# Altium integrated library Linear Technology Power Management Switching Regulator LT1074-LT8705.IntLib: 2252 symbols (part 72 of 148)
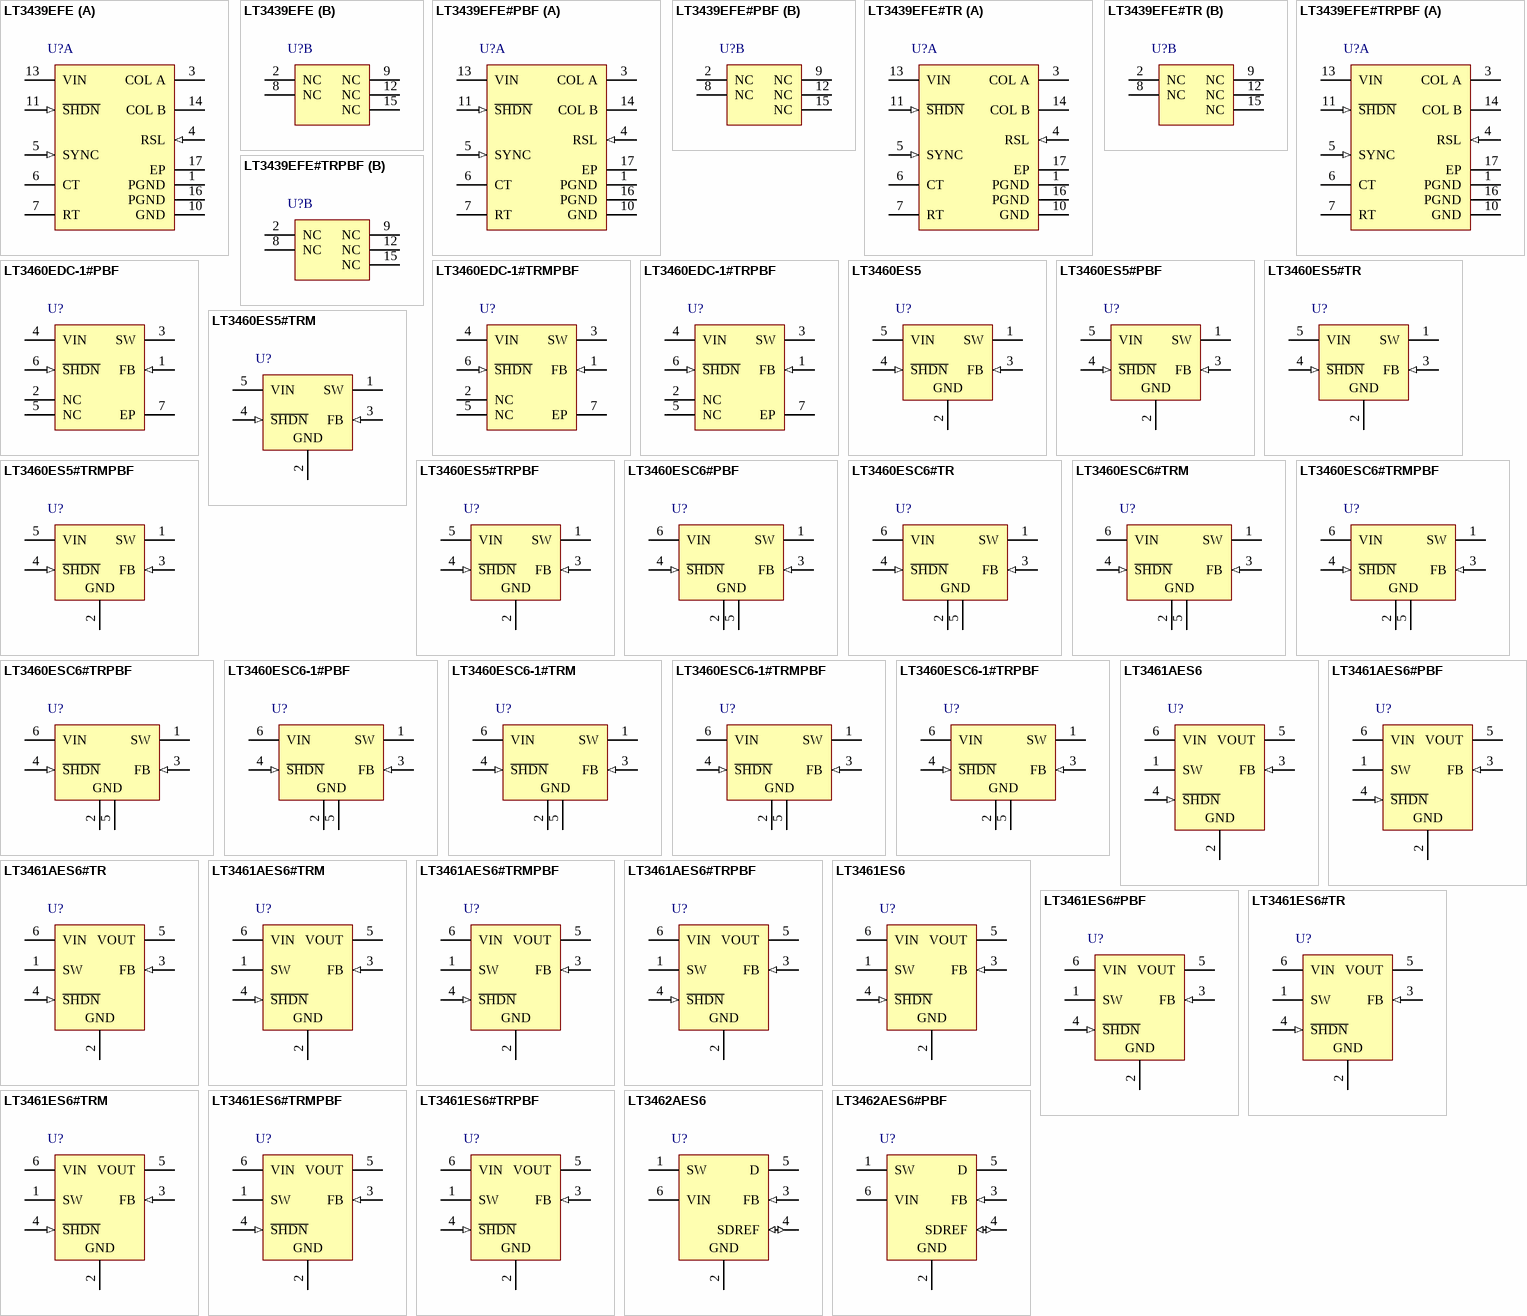
[diagram p142: symbols LT3439EFE to LT3462AES6#PBF]

## LT3460ES5#TRMPBF
designator U?
1.3 MHz Step-Up DC/DC Converter, 5-pin SOT23 (S5-5), -40 to 85 degC, Pb-Free, Mini Tape and Reel; Manufacturer: Linear Technology; PartNumber: LT3460ES5#TRMPBF; Number of Outputs: 1; DatasheetVersion: Rev. B; PackageVersion: Jun-10; PackageReference: S5-5; PackageDescription: 5-Pin Plastic TSOT-23, Body 1.63 x 2.90 mm, Pitch 0.95 mm; Supplier 1: Digi-Key; Supplier Part Number 1: LT3460ES5#TRMPBFTR-ND; Supplier 2: Digi-Key; Supplier Part Number 2: LT3460ES5#TRMPBFCT-ND; Supplier 3: Digi-Key; Supplier Part Number 3: LT3460ES5#TRMPBFDKR-ND; Supplier 4: Farnell; Supplier Part Number 4: 1663819; Supplier 5: Newark; Supplier Part Number 5: 57M8165; Packing: Mini Tape and Reel; RoHS: TRUE; Mounting Technology: Surface Mount; Code_JEDEC: MO-193; ComponentLink1Description: Manufacturer URL; ComponentLink1URL: http://www.linear.com/; ComponentLink2Description: Datasheet; ComponentLink2URL: http://cds.linear.com/docs/en/datasheet/34601fb.pdf; ComponentLink3Description: Package Specification; ComponentLink3URL: http://cds.linear.com/docs/en/packaging/SOT_5_05-08-1635.pdf
footprint LT-S5-5-TSOT-23_N (SOT23, 5-Leads, Body 2.90x1.63mm, Pitch 0.95mm, IPC Medium Density)
footprint LT-S5-5-TSOT-23_L (SOT23, 5-Leads, Body 2.90x1.63mm, Pitch 0.95mm, IPC High Density)
footprint LT-S5-5-TSOT-23_M (SOT23, 5-Leads, Body 2.90x1.63mm, Pitch 0.95mm, IPC Low Density)
pins: 1 SW (power) "Switch Pin. Connect inductor/diode here. Minimize trace at this pin to reduce EMI.", 2 GND (power) "Ground Pin. Tie directly to local ground plane.", 3 FB (in) "Feedback Pin.", 4 ~{SHDN} (in) "Shutdown Pin.", 5 VIN (power) "Input Supply Pin. Must be locally bypassed."

## LT3460ES5#TRPBF
designator U?
1.3 MHz Step-Up DC/DC Converter, 5-pin SOT23 (S5-5), -40 to 85 degC, Pb-Free, Tape and Reel; Manufacturer: Linear Technology; PartNumber: LT3460ES5#TRPBF; Number of Outputs: 1; DatasheetVersion: Rev. B; PackageVersion: Jun-10; PackageReference: S5-5; PackageDescription: 5-Pin Plastic TSOT-23, Body 1.63 x 2.90 mm, Pitch 0.95 mm; Supplier 1: Digi-Key; Supplier Part Number 1: LT3460ES5#TRPBF-ND; Supplier 2: Newark; Supplier Part Number 2: 57M8166; Packing: Tape and Reel; RoHS: TRUE; Mounting Technology: Surface Mount; Code_JEDEC: MO-193; ComponentLink1Description: Manufacturer URL; ComponentLink1URL: http://www.linear.com/; ComponentLink2Description: Datasheet; ComponentLink2URL: http://cds.linear.com/docs/en/datasheet/34601fb.pdf; ComponentLink3Description: Package Specification; ComponentLink3URL: http://cds.linear.com/docs/en/packaging/SOT_5_05-08-1635.pdf
footprint LT-S5-5-TSOT-23_N (SOT23, 5-Leads, Body 2.90x1.63mm, Pitch 0.95mm, IPC Medium Density)
footprint LT-S5-5-TSOT-23_L (SOT23, 5-Leads, Body 2.90x1.63mm, Pitch 0.95mm, IPC High Density)
footprint LT-S5-5-TSOT-23_M (SOT23, 5-Leads, Body 2.90x1.63mm, Pitch 0.95mm, IPC Low Density)
pins: 1 SW (power) "Switch Pin. Connect inductor/diode here. Minimize trace at this pin to reduce EMI.", 2 GND (power) "Ground Pin. Tie directly to local ground plane.", 3 FB (in) "Feedback Pin.", 4 ~{SHDN} (in) "Shutdown Pin.", 5 VIN (power) "Input Supply Pin. Must be locally bypassed."

## LT3460ESC6#PBF
designator U?
1.3 MHz Step-Up DC/DC Converter, 6-pin SOT23 (SC6-6), -40 to 85 degC, Pb-Free; Manufacturer: Linear Technology; PartNumber: LT3460ESC6#PBF; Number of Outputs: 1; DatasheetVersion: Rev. B; PackageVersion: Rev. B, 06/2010; PackageReference: SC6-6; PackageDescription: 6-Pin Plastic SC70, Body 2 x 1.25 mm, Pitch 0.65 mm; RoHS: TRUE; Mounting Technology: Surface Mount; Code_JEDEC: MO-203; ComponentLink1Description: Manufacturer URL; ComponentLink1URL: http://www.linear.com/; ComponentLink2Description: Datasheet; ComponentLink2URL: http://cds.linear.com/docs/en/datasheet/34601fb.pdf; ComponentLink3Description: Package Specification; ComponentLink3URL: http://cds.linear.com/docs/en/packaging/SOT_6_05-08-1638.pdf
footprint LT-SC6-6-SC70_N (SOT23, 6-Leads, Body 2.2x1.35mm, Pitch 0.65mm, IPC Medium Density)
footprint LT-SC6-6-SC70_L (SOT23, 6-Leads, Body 2.2x1.35mm, Pitch 0.65mm, IPC High Density)
footprint LT-SC6-6-SC70_M (SOT23, 6-Leads, Body 2.2x1.35mm, Pitch 0.65mm, IPC Low Density)
pins: 1 SW (power) "Switch Pin. Connect inductor/diode here. Minimize trace at this pin to reduce EMI.", 2 GND (power) "Ground Pin. Tie directly to local ground plane.", 3 FB (in) "Feedback Pin. Reference voltage is 1.255V. Connect resistor divider tap here. Minimize trace area at FB. Set VOUT according to VOUT = 1.255V (1 + R1/R2).", 4 ~{SHDN} (in) "Shutdown Pin. Tie to 1.5V or higher to enable device; 0.4V or less to disable device. Also functions as soft-start. Use RC filter (47k, 47nF typ) as shown in Figure 1.", 5 GND (power) "Ground Pin. Tie directly to local ground plane.", 6 VIN (power) "Input Supply Pin. Must be locally bypassed."

## LT3460ESC6#TR
designator U?
1.3 MHz Step-Up DC/DC Converter, 6-pin SOT23 (SC6-6), -40 to 85 degC, Tape and Reel; Manufacturer: Linear Technology; PartNumber: LT3460ESC6#TR; Number of Outputs: 1; DatasheetVersion: Rev. B; PackageVersion: Rev. B, 06/2010; PackageReference: SC6-6; PackageDescription: 6-Pin Plastic SC70, Body 2 x 1.25 mm, Pitch 0.65 mm; Supplier 1: Digi-Key; Supplier Part Number 1: LT3460ESC6#TR-ND; Packing: Tape and Reel; RoHS: FALSE; Mounting Technology: Surface Mount; Code_JEDEC: MO-203; ComponentLink1Description: Manufacturer URL; ComponentLink1URL: http://www.linear.com/; ComponentLink2Description: Datasheet; ComponentLink2URL: http://cds.linear.com/docs/en/datasheet/34601fb.pdf; ComponentLink3Description: Package Specification; ComponentLink3URL: http://cds.linear.com/docs/en/packaging/SOT_6_05-08-1638.pdf
footprint LT-SC6-6-SC70_N (SOT23, 6-Leads, Body 2.2x1.35mm, Pitch 0.65mm, IPC Medium Density)
footprint LT-SC6-6-SC70_L (SOT23, 6-Leads, Body 2.2x1.35mm, Pitch 0.65mm, IPC High Density)
footprint LT-SC6-6-SC70_M (SOT23, 6-Leads, Body 2.2x1.35mm, Pitch 0.65mm, IPC Low Density)
pins: 1 SW (power) "Switch Pin. Connect inductor/diode here. Minimize trace at this pin to reduce EMI.", 2 GND (power) "Ground Pin. Tie directly to local ground plane.", 3 FB (in) "Feedback Pin. Reference voltage is 1.255V. Connect resistor divider tap here. Minimize trace area at FB. Set VOUT according to VOUT = 1.255V (1 + R1/R2).", 4 ~{SHDN} (in) "Shutdown Pin. Tie to 1.5V or higher to enable device; 0.4V or less to disable device. Also functions as soft-start. Use RC filter (47k, 47nF typ) as shown in Figure 1.", 5 GND (power) "Ground Pin. Tie directly to local ground plane.", 6 VIN (power) "Input Supply Pin. Must be locally bypassed."

## LT3460ESC6#TRM
designator U?
1.3 MHz Step-Up DC/DC Converter, 6-pin SOT23 (SC6-6), -40 to 85 degC, Mini Tape and Reel; Manufacturer: Linear Technology; PartNumber: LT3460ESC6#TRM; Number of Outputs: 1; DatasheetVersion: Rev. B; PackageVersion: Rev. B, 06/2010; PackageReference: SC6-6; PackageDescription: 6-Pin Plastic SC70, Body 2 x 1.25 mm, Pitch 0.65 mm; Supplier 1: Digi-Key; Supplier Part Number 1: LT3460ESC6#TRMTR-ND; Supplier 2: Digi-Key; Supplier Part Number 2: LT3460ESC6#TRMCT-ND; Packing: Mini Tape and Reel; RoHS: FALSE; Mounting Technology: Surface Mount; Code_JEDEC: MO-203; ComponentLink1Description: Manufacturer URL; ComponentLink1URL: http://www.linear.com/; ComponentLink2Description: Datasheet; ComponentLink2URL: http://cds.linear.com/docs/en/datasheet/34601fb.pdf; ComponentLink3Description: Package Specification; ComponentLink3URL: http://cds.linear.com/docs/en/packaging/SOT_6_05-08-1638.pdf
footprint LT-SC6-6-SC70_N (SOT23, 6-Leads, Body 2.2x1.35mm, Pitch 0.65mm, IPC Medium Density)
footprint LT-SC6-6-SC70_L (SOT23, 6-Leads, Body 2.2x1.35mm, Pitch 0.65mm, IPC High Density)
footprint LT-SC6-6-SC70_M (SOT23, 6-Leads, Body 2.2x1.35mm, Pitch 0.65mm, IPC Low Density)
pins: 1 SW (power) "Switch Pin. Connect inductor/diode here. Minimize trace at this pin to reduce EMI.", 2 GND (power) "Ground Pin. Tie directly to local ground plane.", 3 FB (in) "Feedback Pin. Reference voltage is 1.255V. Connect resistor divider tap here. Minimize trace area at FB. Set VOUT according to VOUT = 1.255V (1 + R1/R2).", 4 ~{SHDN} (in) "Shutdown Pin. Tie to 1.5V or higher to enable device; 0.4V or less to disable device. Also functions as soft-start. Use RC filter (47k, 47nF typ) as shown in Figure 1.", 5 GND (power) "Ground Pin. Tie directly to local ground plane.", 6 VIN (power) "Input Supply Pin. Must be locally bypassed."

## LT3460ESC6#TRMPBF
designator U?
1.3 MHz Step-Up DC/DC Converter, 6-pin SOT23 (SC6-6), -40 to 85 degC, Pb-Free, Mini Tape and Reel; Manufacturer: Linear Technology; PartNumber: LT3460ESC6#TRMPBF; Number of Outputs: 1; DatasheetVersion: Rev. B; PackageVersion: Rev. B, 06/2010; PackageReference: SC6-6; PackageDescription: 6-Pin Plastic SC70, Body 2 x 1.25 mm, Pitch 0.65 mm; Supplier 1: Digi-Key; Supplier Part Number 1: LT3460ESC6#TRMPBF-ND; Packing: Mini Tape and Reel; RoHS: TRUE; Mounting Technology: Surface Mount; Code_JEDEC: MO-203; ComponentLink1Description: Manufacturer URL; ComponentLink1URL: http://www.linear.com/; ComponentLink2Description: Datasheet; ComponentLink2URL: http://cds.linear.com/docs/en/datasheet/34601fb.pdf; ComponentLink3Description: Package Specification; ComponentLink3URL: http://cds.linear.com/docs/en/packaging/SOT_6_05-08-1638.pdf
footprint LT-SC6-6-SC70_N (SOT23, 6-Leads, Body 2.2x1.35mm, Pitch 0.65mm, IPC Medium Density)
footprint LT-SC6-6-SC70_L (SOT23, 6-Leads, Body 2.2x1.35mm, Pitch 0.65mm, IPC High Density)
footprint LT-SC6-6-SC70_M (SOT23, 6-Leads, Body 2.2x1.35mm, Pitch 0.65mm, IPC Low Density)
pins: 1 SW (power) "Switch Pin. Connect inductor/diode here. Minimize trace at this pin to reduce EMI.", 2 GND (power) "Ground Pin. Tie directly to local ground plane.", 3 FB (in) "Feedback Pin. Reference voltage is 1.255V. Connect resistor divider tap here. Minimize trace area at FB. Set VOUT according to VOUT = 1.255V (1 + R1/R2).", 4 ~{SHDN} (in) "Shutdown Pin. Tie to 1.5V or higher to enable device; 0.4V or less to disable device. Also functions as soft-start. Use RC filter (47k, 47nF typ) as shown in Figure 1.", 5 GND (power) "Ground Pin. Tie directly to local ground plane.", 6 VIN (power) "Input Supply Pin. Must be locally bypassed."

## LT3460ESC6#TRPBF
designator U?
1.3 MHz Step-Up DC/DC Converter, 6-pin SOT23 (SC6-6), -40 to 85 degC, Pb-Free, Tape and Reel; Manufacturer: Linear Technology; PartNumber: LT3460ESC6#TRPBF; Number of Outputs: 1; DatasheetVersion: Rev. B; PackageVersion: Rev. B, 06/2010; PackageReference: SC6-6; PackageDescription: 6-Pin Plastic SC70, Body 2 x 1.25 mm, Pitch 0.65 mm; Supplier 1: Digi-Key; Supplier Part Number 1: LT3460ESC6#TRPBF-ND; Packing: Tape and Reel; RoHS: TRUE; Mounting Technology: Surface Mount; Code_JEDEC: MO-203; ComponentLink1Description: Manufacturer URL; ComponentLink1URL: http://www.linear.com/; ComponentLink2Description: Datasheet; ComponentLink2URL: http://cds.linear.com/docs/en/datasheet/34601fb.pdf; ComponentLink3Description: Package Specification; ComponentLink3URL: http://cds.linear.com/docs/en/packaging/SOT_6_05-08-1638.pdf
footprint LT-SC6-6-SC70_N (SOT23, 6-Leads, Body 2.2x1.35mm, Pitch 0.65mm, IPC Medium Density)
footprint LT-SC6-6-SC70_L (SOT23, 6-Leads, Body 2.2x1.35mm, Pitch 0.65mm, IPC High Density)
footprint LT-SC6-6-SC70_M (SOT23, 6-Leads, Body 2.2x1.35mm, Pitch 0.65mm, IPC Low Density)
pins: 1 SW (power) "Switch Pin. Connect inductor/diode here. Minimize trace at this pin to reduce EMI.", 2 GND (power) "Ground Pin. Tie directly to local ground plane.", 3 FB (in) "Feedback Pin. Reference voltage is 1.255V. Connect resistor divider tap here. Minimize trace area at FB. Set VOUT according to VOUT = 1.255V (1 + R1/R2).", 4 ~{SHDN} (in) "Shutdown Pin. Tie to 1.5V or higher to enable device; 0.4V or less to disable device. Also functions as soft-start. Use RC filter (47k, 47nF typ) as shown in Figure 1.", 5 GND (power) "Ground Pin. Tie directly to local ground plane.", 6 VIN (power) "Input Supply Pin. Must be locally bypassed."

## LT3460ESC6-1#PBF
designator U?
650 kHz Step-Up DC/DC Converter, 6-pin SOT23 (SC6-6), -40 to 85 degC, Pb-Free; Manufacturer: Linear Technology; PartNumber: LT3460ESC6-1#PBF; Number of Outputs: 1; DatasheetVersion: Rev. B; PackageVersion: Rev. B, 06/2010; PackageReference: SC6-6; PackageDescription: 6-Pin Plastic SC70, Body 2 x 1.25 mm, Pitch 0.65 mm; RoHS: TRUE; Mounting Technology: Surface Mount; Code_JEDEC: MO-203; ComponentLink1Description: Manufacturer URL; ComponentLink1URL: http://www.linear.com/; ComponentLink2Description: Datasheet; ComponentLink2URL: http://cds.linear.com/docs/en/datasheet/34601fb.pdf; ComponentLink3Description: Package Specification; ComponentLink3URL: http://cds.linear.com/docs/en/packaging/SOT_6_05-08-1638.pdf
footprint LT-SC6-6-SC70_N (SOT23, 6-Leads, Body 2.2x1.35mm, Pitch 0.65mm, IPC Medium Density)
footprint LT-SC6-6-SC70_L (SOT23, 6-Leads, Body 2.2x1.35mm, Pitch 0.65mm, IPC High Density)
footprint LT-SC6-6-SC70_M (SOT23, 6-Leads, Body 2.2x1.35mm, Pitch 0.65mm, IPC Low Density)
pins: 1 SW (power) "Switch Pin. Connect inductor/diode here. Minimize trace at this pin to reduce EMI.", 2 GND (power) "Ground Pin. Tie directly to local ground plane.", 3 FB (in) "Feedback Pin. Reference voltage is 1.255V. Connect resistor divider tap here. Minimize trace area at FB. Set VOUT according to VOUT = 1.255V (1 + R1/R2).", 4 ~{SHDN} (in) "Shutdown Pin. Tie to 1.5V or higher to enable device; 0.4V or less to disable device. Also functions as soft-start. Use RC filter (47k, 47nF typ) as shown in Figure 1.", 5 GND (power) "Ground Pin. Tie directly to local ground plane.", 6 VIN (power) "Input Supply Pin. Must be locally bypassed."

## LT3460ESC6-1#TRM
designator U?
650 kHz Step-Up DC/DC Converter, 6-pin SOT23 (SC6-6), -40 to 85 degC, Mini Tape and Reel; Manufacturer: Linear Technology; PartNumber: LT3460ESC6-1#TRM; Number of Outputs: 1; DatasheetVersion: Rev. B; PackageVersion: Rev. B, 06/2010; PackageReference: SC6-6; PackageDescription: 6-Pin Plastic SC70, Body 2 x 1.25 mm, Pitch 0.65 mm; Packing: Mini Tape and Reel; RoHS: TRUE; Mounting Technology: Surface Mount; Code_JEDEC: MO-203; ComponentLink1Description: Manufacturer URL; ComponentLink1URL: http://www.linear.com/; ComponentLink2Description: Datasheet; ComponentLink2URL: http://cds.linear.com/docs/en/datasheet/34601fb.pdf; ComponentLink3Description: Package Specification; ComponentLink3URL: http://cds.linear.com/docs/en/packaging/SOT_6_05-08-1638.pdf
footprint LT-SC6-6-SC70_N (SOT23, 6-Leads, Body 2.2x1.35mm, Pitch 0.65mm, IPC Medium Density)
footprint LT-SC6-6-SC70_L (SOT23, 6-Leads, Body 2.2x1.35mm, Pitch 0.65mm, IPC High Density)
footprint LT-SC6-6-SC70_M (SOT23, 6-Leads, Body 2.2x1.35mm, Pitch 0.65mm, IPC Low Density)
pins: 1 SW (power) "Switch Pin. Connect inductor/diode here. Minimize trace at this pin to reduce EMI.", 2 GND (power) "Ground Pin. Tie directly to local ground plane.", 3 FB (in) "Feedback Pin. Reference voltage is 1.255V. Connect resistor divider tap here. Minimize trace area at FB. Set VOUT according to VOUT = 1.255V (1 + R1/R2).", 4 ~{SHDN} (in) "Shutdown Pin. Tie to 1.5V or higher to enable device; 0.4V or less to disable device. Also functions as soft-start. Use RC filter (47k, 47nF typ) as shown in Figure 1.", 5 GND (power) "Ground Pin. Tie directly to local ground plane.", 6 VIN (power) "Input Supply Pin. Must be locally bypassed."

## LT3460ESC6-1#TRMPBF
designator U?
650 kHz Step-Up DC/DC Converter, 6-pin SOT23 (SC6-6), -40 to 85 degC, Pb-Free, Mini Tape and Reel; Manufacturer: Linear Technology; PartNumber: LT3460ESC6-1#TRMPBF; Number of Outputs: 1; DatasheetVersion: Rev. B; PackageVersion: Rev. B, 06/2010; PackageReference: SC6-6; PackageDescription: 6-Pin Plastic SC70, Body 2 x 1.25 mm, Pitch 0.65 mm; Supplier 1: Digi-Key; Supplier Part Number 1: LT3460ESC6-1#TRMPBF-ND; Packing: Mini Tape and Reel; RoHS: TRUE; Mounting Technology: Surface Mount; Code_JEDEC: MO-203; ComponentLink1Description: Manufacturer URL; ComponentLink1URL: http://www.linear.com/; ComponentLink2Description: Datasheet; ComponentLink2URL: http://cds.linear.com/docs/en/datasheet/34601fb.pdf; ComponentLink3Description: Package Specification; ComponentLink3URL: http://cds.linear.com/docs/en/packaging/SOT_6_05-08-1638.pdf
footprint LT-SC6-6-SC70_N (SOT23, 6-Leads, Body 2.2x1.35mm, Pitch 0.65mm, IPC Medium Density)
footprint LT-SC6-6-SC70_L (SOT23, 6-Leads, Body 2.2x1.35mm, Pitch 0.65mm, IPC High Density)
footprint LT-SC6-6-SC70_M (SOT23, 6-Leads, Body 2.2x1.35mm, Pitch 0.65mm, IPC Low Density)
pins: 1 SW (power) "Switch Pin. Connect inductor/diode here. Minimize trace at this pin to reduce EMI.", 2 GND (power) "Ground Pin. Tie directly to local ground plane.", 3 FB (in) "Feedback Pin. Reference voltage is 1.255V. Connect resistor divider tap here. Minimize trace area at FB. Set VOUT according to VOUT = 1.255V (1 + R1/R2).", 4 ~{SHDN} (in) "Shutdown Pin. Tie to 1.5V or higher to enable device; 0.4V or less to disable device. Also functions as soft-start. Use RC filter (47k, 47nF typ) as shown in Figure 1.", 5 GND (power) "Ground Pin. Tie directly to local ground plane.", 6 VIN (power) "Input Supply Pin. Must be locally bypassed."

## LT3460ESC6-1#TRPBF
designator U?
650 kHz Step-Up DC/DC Converter, 6-pin SOT23 (SC6-6), -40 to 85 degC, Pb-Free, Tape and Reel; Manufacturer: Linear Technology; PartNumber: LT3460ESC6-1#TRPBF; Number of Outputs: 1; DatasheetVersion: Rev. B; PackageVersion: Rev. B, 06/2010; PackageReference: SC6-6; PackageDescription: 6-Pin Plastic SC70, Body 2 x 1.25 mm, Pitch 0.65 mm; Supplier 1: Digi-Key; Supplier Part Number 1: LT3460ESC6-1#TRPBF-ND; Packing: Tape and Reel; RoHS: TRUE; Mounting Technology: Surface Mount; Code_JEDEC: MO-203; ComponentLink1Description: Manufacturer URL; ComponentLink1URL: http://www.linear.com/; ComponentLink2Description: Datasheet; ComponentLink2URL: http://cds.linear.com/docs/en/datasheet/34601fb.pdf; ComponentLink3Description: Package Specification; ComponentLink3URL: http://cds.linear.com/docs/en/packaging/SOT_6_05-08-1638.pdf
footprint LT-SC6-6-SC70_N (SOT23, 6-Leads, Body 2.2x1.35mm, Pitch 0.65mm, IPC Medium Density)
footprint LT-SC6-6-SC70_L (SOT23, 6-Leads, Body 2.2x1.35mm, Pitch 0.65mm, IPC High Density)
footprint LT-SC6-6-SC70_M (SOT23, 6-Leads, Body 2.2x1.35mm, Pitch 0.65mm, IPC Low Density)
pins: 1 SW (power) "Switch Pin. Connect inductor/diode here. Minimize trace at this pin to reduce EMI.", 2 GND (power) "Ground Pin. Tie directly to local ground plane.", 3 FB (in) "Feedback Pin. Reference voltage is 1.255V. Connect resistor divider tap here. Minimize trace area at FB. Set VOUT according to VOUT = 1.255V (1 + R1/R2).", 4 ~{SHDN} (in) "Shutdown Pin. Tie to 1.5V or higher to enable device; 0.4V or less to disable device. Also functions as soft-start. Use RC filter (47k, 47nF typ) as shown in Figure 1.", 5 GND (power) "Ground Pin. Tie directly to local ground plane.", 6 VIN (power) "Input Supply Pin. Must be locally bypassed."

## LT3461AES6
designator U?
3 MHz Step-Up DC/DC Converter with Integrated Schottky, 6-pin SOT23 (S6-6), -40 to 85 degC; Manufacturer: Linear Technology; PartNumber: LT3461AES6; Number of Outputs: 1; PackageVersion: Jun-10; PackageReference: S6-6; PackageDescription: 6-Pin Plastic TSOT-23, Body 2.9 x 1.63 mm, Pitch 0.95 mm; Supplier 1: Newark; Supplier Part Number 1: 24W8904; RoHS: FALSE; Mounting Technology: Surface Mount; Code_JEDEC: MO-193; ComponentLink1Description: Manufacturer URL; ComponentLink1URL: http://www.linear.com/; ComponentLink2Description: Datasheet; ComponentLink2URL: http://cds.linear.com/docs/en/datasheet/3461af.pdf; ComponentLink3Description: Package Specification; ComponentLink3URL: http://cds.linear.com/docs/en/packaging/SOT_6_05-08-1636.pdf
footprint LT-S6-6-TSOT-23_N (SOT23, 6-Leads, Body 2.9x1.75mm, Pitch 0.95mm, IPC Medium Density)
footprint LT-S6-6-TSOT-23_L (SOT23, 6-Leads, Body 2.9x1.75mm, Pitch 0.95mm, IPC High Density)
footprint LT-S6-6-TSOT-23_M (SOT23, 6-Leads, Body 2.9x1.75mm, Pitch 0.95mm, IPC Low Density)
pins: 1 SW, 2 GND (power), 3 FB (in), 4 ~{SHDN} (in), 5 VOUT (power), 6 VIN (power)

## LT3461AES6#PBF
designator U?
3 MHz Step-Up DC/DC Converter with Integrated Schottky, 6-pin SOT23 (S6-6), -40 to 85 degC, Pb-Free; Manufacturer: Linear Technology; PartNumber: LT3461AES6#PBF; Number of Outputs: 1; PackageVersion: Jun-10; PackageReference: S6-6; PackageDescription: 6-Pin Plastic TSOT-23, Body 2.9 x 1.63 mm, Pitch 0.95 mm; Supplier 1: Farnell; Supplier Part Number 1: 2308200; Supplier 2: Newark; Supplier Part Number 2: 78T3988; RoHS: TRUE; Mounting Technology: Surface Mount; Code_JEDEC: MO-193; ComponentLink1Description: Manufacturer URL; ComponentLink1URL: http://www.linear.com/; ComponentLink2Description: Datasheet; ComponentLink2URL: http://cds.linear.com/docs/en/datasheet/3461af.pdf; ComponentLink3Description: Package Specification; ComponentLink3URL: http://cds.linear.com/docs/en/packaging/SOT_6_05-08-1636.pdf
footprint LT-S6-6-TSOT-23_N (SOT23, 6-Leads, Body 2.9x1.75mm, Pitch 0.95mm, IPC Medium Density)
footprint LT-S6-6-TSOT-23_L (SOT23, 6-Leads, Body 2.9x1.75mm, Pitch 0.95mm, IPC High Density)
footprint LT-S6-6-TSOT-23_M (SOT23, 6-Leads, Body 2.9x1.75mm, Pitch 0.95mm, IPC Low Density)
pins: 1 SW, 2 GND (power), 3 FB (in), 4 ~{SHDN} (in), 5 VOUT (power), 6 VIN (power)

## LT3461AES6#TR
designator U?
3 MHz Step-Up DC/DC Converter with Integrated Schottky, 6-pin SOT23 (S6-6), -40 to 85 degC, Tape and Reel; Manufacturer: Linear Technology; PartNumber: LT3461AES6#TR; Number of Outputs: 1; PackageVersion: Jun-10; PackageReference: S6-6; PackageDescription: 6-Pin Plastic TSOT-23, Body 2.9 x 1.63 mm, Pitch 0.95 mm; Supplier 1: Digi-Key; Supplier Part Number 1: LT3461AES6#TR-ND; Packing: Tape and Reel; RoHS: FALSE; Mounting Technology: Surface Mount; Code_JEDEC: MO-193; ComponentLink1Description: Manufacturer URL; ComponentLink1URL: http://www.linear.com/; ComponentLink2Description: Datasheet; ComponentLink2URL: http://cds.linear.com/docs/en/datasheet/3461af.pdf; ComponentLink3Description: Package Specification; ComponentLink3URL: http://cds.linear.com/docs/en/packaging/SOT_6_05-08-1636.pdf
footprint LT-S6-6-TSOT-23_N (SOT23, 6-Leads, Body 2.9x1.75mm, Pitch 0.95mm, IPC Medium Density)
footprint LT-S6-6-TSOT-23_L (SOT23, 6-Leads, Body 2.9x1.75mm, Pitch 0.95mm, IPC High Density)
footprint LT-S6-6-TSOT-23_M (SOT23, 6-Leads, Body 2.9x1.75mm, Pitch 0.95mm, IPC Low Density)
pins: 1 SW, 2 GND (power), 3 FB (in), 4 ~{SHDN} (in), 5 VOUT (power), 6 VIN (power)

## LT3461AES6#TRM
designator U?
3 MHz Step-Up DC/DC Converter with Integrated Schottky, 6-pin SOT23 (S6-6), -40 to 85 degC, Mini Tape and Reel; Manufacturer: Linear Technology; PartNumber: LT3461AES6#TRM; Number of Outputs: 1; PackageVersion: Jun-10; PackageReference: S6-6; PackageDescription: 6-Pin Plastic TSOT-23, Body 2.9 x 1.63 mm, Pitch 0.95 mm; Supplier 1: Digi-Key; Supplier Part Number 1: LT3461AES6#TRMTR-ND; Supplier 2: Digi-Key; Supplier Part Number 2: LT3461AES6#TRMCT-ND; Packing: Mini Tape and Reel; RoHS: FALSE; Mounting Technology: Surface Mount; Code_JEDEC: MO-193; ComponentLink1Description: Manufacturer URL; ComponentLink1URL: http://www.linear.com/; ComponentLink2Description: Datasheet; ComponentLink2URL: http://cds.linear.com/docs/en/datasheet/3461af.pdf; ComponentLink3Description: Package Specification; ComponentLink3URL: http://cds.linear.com/docs/en/packaging/SOT_6_05-08-1636.pdf
footprint LT-S6-6-TSOT-23_N (SOT23, 6-Leads, Body 2.9x1.75mm, Pitch 0.95mm, IPC Medium Density)
footprint LT-S6-6-TSOT-23_L (SOT23, 6-Leads, Body 2.9x1.75mm, Pitch 0.95mm, IPC High Density)
footprint LT-S6-6-TSOT-23_M (SOT23, 6-Leads, Body 2.9x1.75mm, Pitch 0.95mm, IPC Low Density)
pins: 1 SW, 2 GND (power), 3 FB (in), 4 ~{SHDN} (in), 5 VOUT (power), 6 VIN (power)

## LT3461AES6#TRMPBF
designator U?
3 MHz Step-Up DC/DC Converter with Integrated Schottky, 6-pin SOT23 (S6-6), -40 to 85 degC, Pb-Free, Mini Tape and Reel; Manufacturer: Linear Technology; PartNumber: LT3461AES6#TRMPBF; Number of Outputs: 1; PackageVersion: Jun-10; PackageReference: S6-6; PackageDescription: 6-Pin Plastic TSOT-23, Body 2.9 x 1.63 mm, Pitch 0.95 mm; Supplier 1: Digi-Key; Supplier Part Number 1: LT3461AES6#TRMPBFTR-ND; Supplier 2: Digi-Key; Supplier Part Number 2: LT3461AES6#TRMPBFCT-ND; Supplier 3: Digi-Key; Supplier Part Number 3: LT3461AES6#TRMPBFDKR-ND; Supplier 4: Farnell; Supplier Part Number 4: 1663820RL; Supplier 5: Farnell; Supplier Part Number 5: 1663820; Supplier 6: Newark; Supplier Part Number 6: 57M8169; Supplier 7: Newark; Supplier Part Number 7: 59M8320; Packing: Mini Tape and Reel; RoHS: TRUE; Mounting Technology: Surface Mount; Code_JEDEC: MO-193; ComponentLink1Description: Manufacturer URL; ComponentLink1URL: http://www.linear.com/; ComponentLink2Description: Datasheet; ComponentLink2URL: http://cds.linear.com/docs/en/datasheet/3461af.pdf; ComponentLink3Description: Package Specification; ComponentLink3URL: http://cds.linear.com/docs/en/packaging/SOT_6_05-08-1636.pdf
footprint LT-S6-6-TSOT-23_N (SOT23, 6-Leads, Body 2.9x1.75mm, Pitch 0.95mm, IPC Medium Density)
footprint LT-S6-6-TSOT-23_L (SOT23, 6-Leads, Body 2.9x1.75mm, Pitch 0.95mm, IPC High Density)
footprint LT-S6-6-TSOT-23_M (SOT23, 6-Leads, Body 2.9x1.75mm, Pitch 0.95mm, IPC Low Density)
pins: 1 SW, 2 GND (power), 3 FB (in), 4 ~{SHDN} (in), 5 VOUT (power), 6 VIN (power)

## LT3461AES6#TRPBF
designator U?
3 MHz Step-Up DC/DC Converter with Integrated Schottky, 6-pin SOT23 (S6-6), -40 to 85 degC, Pb-Free, Tape and Reel; Manufacturer: Linear Technology; PartNumber: LT3461AES6#TRPBF; Number of Outputs: 1; PackageVersion: Jun-10; PackageReference: S6-6; PackageDescription: 6-Pin Plastic TSOT-23, Body 2.9 x 1.63 mm, Pitch 0.95 mm; Supplier 1: Digi-Key; Supplier Part Number 1: LT3461AES6#TRPBF-ND; Supplier 2: Newark; Supplier Part Number 2: 57M8170; Packing: Tape and Reel; RoHS: TRUE; Mounting Technology: Surface Mount; Code_JEDEC: MO-193; ComponentLink1Description: Manufacturer URL; ComponentLink1URL: http://www.linear.com/; ComponentLink2Description: Datasheet; ComponentLink2URL: http://cds.linear.com/docs/en/datasheet/3461af.pdf; ComponentLink3Description: Package Specification; ComponentLink3URL: http://cds.linear.com/docs/en/packaging/SOT_6_05-08-1636.pdf
footprint LT-S6-6-TSOT-23_N (SOT23, 6-Leads, Body 2.9x1.75mm, Pitch 0.95mm, IPC Medium Density)
footprint LT-S6-6-TSOT-23_L (SOT23, 6-Leads, Body 2.9x1.75mm, Pitch 0.95mm, IPC High Density)
footprint LT-S6-6-TSOT-23_M (SOT23, 6-Leads, Body 2.9x1.75mm, Pitch 0.95mm, IPC Low Density)
pins: 1 SW, 2 GND (power), 3 FB (in), 4 ~{SHDN} (in), 5 VOUT (power), 6 VIN (power)

## LT3461ES6
designator U?
1.3 MHz Step-Up DC/DC Converter with Integrated Schottky, 6-pin SOT23 (S6-6), -40 to 85 degC; Manufacturer: Linear Technology; PartNumber: LT3461ES6; Number of Outputs: 1; PackageVersion: Jun-10; PackageReference: S6-6; PackageDescription: 6-Pin Plastic TSOT-23, Body 2.9 x 1.63 mm, Pitch 0.95 mm; RoHS: FALSE; Mounting Technology: Surface Mount; Code_JEDEC: MO-193; ComponentLink1Description: Manufacturer URL; ComponentLink1URL: http://www.linear.com/; ComponentLink2Description: Datasheet; ComponentLink2URL: http://cds.linear.com/docs/en/datasheet/3461af.pdf; ComponentLink3Description: Package Specification; ComponentLink3URL: http://cds.linear.com/docs/en/packaging/SOT_6_05-08-1636.pdf
footprint LT-S6-6-TSOT-23_N (SOT23, 6-Leads, Body 2.9x1.75mm, Pitch 0.95mm, IPC Medium Density)
footprint LT-S6-6-TSOT-23_L (SOT23, 6-Leads, Body 2.9x1.75mm, Pitch 0.95mm, IPC High Density)
footprint LT-S6-6-TSOT-23_M (SOT23, 6-Leads, Body 2.9x1.75mm, Pitch 0.95mm, IPC Low Density)
pins: 1 SW, 2 GND (power), 3 FB (in), 4 ~{SHDN} (in), 5 VOUT (power), 6 VIN (power)

## LT3461ES6#PBF
designator U?
1.3 MHz Step-Up DC/DC Converter with Integrated Schottky, 6-pin SOT23 (S6-6), -40 to 85 degC, Pb-Free; Manufacturer: Linear Technology; PartNumber: LT3461ES6#PBF; Number of Outputs: 1; PackageVersion: Jun-10; PackageReference: S6-6; PackageDescription: 6-Pin Plastic TSOT-23, Body 2.9 x 1.63 mm, Pitch 0.95 mm; Supplier 1: Farnell; Supplier Part Number 1: 2308201; Supplier 2: Newark; Supplier Part Number 2: 78T3989; RoHS: TRUE; Mounting Technology: Surface Mount; Code_JEDEC: MO-193; ComponentLink1Description: Manufacturer URL; ComponentLink1URL: http://www.linear.com/; ComponentLink2Description: Datasheet; ComponentLink2URL: http://cds.linear.com/docs/en/datasheet/3461af.pdf; ComponentLink3Description: Package Specification; ComponentLink3URL: http://cds.linear.com/docs/en/packaging/SOT_6_05-08-1636.pdf
footprint LT-S6-6-TSOT-23_N (SOT23, 6-Leads, Body 2.9x1.75mm, Pitch 0.95mm, IPC Medium Density)
footprint LT-S6-6-TSOT-23_L (SOT23, 6-Leads, Body 2.9x1.75mm, Pitch 0.95mm, IPC High Density)
footprint LT-S6-6-TSOT-23_M (SOT23, 6-Leads, Body 2.9x1.75mm, Pitch 0.95mm, IPC Low Density)
pins: 1 SW, 2 GND (power), 3 FB (in), 4 ~{SHDN} (in), 5 VOUT (power), 6 VIN (power)

## LT3461ES6#TR
designator U?
1.3 MHz Step-Up DC/DC Converter with Integrated Schottky, 6-pin SOT23 (S6-6), -40 to 85 degC, Tape and Reel; Manufacturer: Linear Technology; PartNumber: LT3461ES6#TR; Number of Outputs: 1; PackageVersion: Jun-10; PackageReference: S6-6; PackageDescription: 6-Pin Plastic TSOT-23, Body 2.9 x 1.63 mm, Pitch 0.95 mm; Supplier 1: Digi-Key; Supplier Part Number 1: LT3461ES6#TR-ND; Supplier 2: Newark; Supplier Part Number 2: 57M8171; Packing: Tape and Reel; RoHS: FALSE; Mounting Technology: Surface Mount; Code_JEDEC: MO-193; ComponentLink1Description: Manufacturer URL; ComponentLink1URL: http://www.linear.com/; ComponentLink2Description: Datasheet; ComponentLink2URL: http://cds.linear.com/docs/en/datasheet/3461af.pdf; ComponentLink3Description: Package Specification; ComponentLink3URL: http://cds.linear.com/docs/en/packaging/SOT_6_05-08-1636.pdf
footprint LT-S6-6-TSOT-23_N (SOT23, 6-Leads, Body 2.9x1.75mm, Pitch 0.95mm, IPC Medium Density)
footprint LT-S6-6-TSOT-23_L (SOT23, 6-Leads, Body 2.9x1.75mm, Pitch 0.95mm, IPC High Density)
footprint LT-S6-6-TSOT-23_M (SOT23, 6-Leads, Body 2.9x1.75mm, Pitch 0.95mm, IPC Low Density)
pins: 1 SW, 2 GND (power), 3 FB (in), 4 ~{SHDN} (in), 5 VOUT (power), 6 VIN (power)

## LT3461ES6#TRM
designator U?
1.3 MHz Step-Up DC/DC Converter with Integrated Schottky, 6-pin SOT23 (S6-6), -40 to 85 degC, Mini Tape and Reel; Manufacturer: Linear Technology; PartNumber: LT3461ES6#TRM; Number of Outputs: 1; PackageVersion: Jun-10; PackageReference: S6-6; PackageDescription: 6-Pin Plastic TSOT-23, Body 2.9 x 1.63 mm, Pitch 0.95 mm; Supplier 1: Digi-Key; Supplier Part Number 1: LT3461ES6#TRMTR-ND; Supplier 2: Digi-Key; Supplier Part Number 2: LT3461ES6#TRMCT-ND; Supplier 3: Newark; Supplier Part Number 3: 57M8172; Packing: Mini Tape and Reel; RoHS: FALSE; Mounting Technology: Surface Mount; Code_JEDEC: MO-193; ComponentLink1Description: Manufacturer URL; ComponentLink1URL: http://www.linear.com/; ComponentLink2Description: Datasheet; ComponentLink2URL: http://cds.linear.com/docs/en/datasheet/3461af.pdf; ComponentLink3Description: Package Specification; ComponentLink3URL: http://cds.linear.com/docs/en/packaging/SOT_6_05-08-1636.pdf
footprint LT-S6-6-TSOT-23_N (SOT23, 6-Leads, Body 2.9x1.75mm, Pitch 0.95mm, IPC Medium Density)
footprint LT-S6-6-TSOT-23_L (SOT23, 6-Leads, Body 2.9x1.75mm, Pitch 0.95mm, IPC High Density)
footprint LT-S6-6-TSOT-23_M (SOT23, 6-Leads, Body 2.9x1.75mm, Pitch 0.95mm, IPC Low Density)
pins: 1 SW, 2 GND (power), 3 FB (in), 4 ~{SHDN} (in), 5 VOUT (power), 6 VIN (power)

## LT3461ES6#TRMPBF
designator U?
1.3 MHz Step-Up DC/DC Converter with Integrated Schottky, 6-pin SOT23 (S6-6), -40 to 85 degC, Pb-Free, Mini Tape and Reel; Manufacturer: Linear Technology; PartNumber: LT3461ES6#TRMPBF; Number of Outputs: 1; PackageVersion: Jun-10; PackageReference: S6-6; PackageDescription: 6-Pin Plastic TSOT-23, Body 2.9 x 1.63 mm, Pitch 0.95 mm; Supplier 1: Digi-Key; Supplier Part Number 1: LT3461ES6#TRMPBFTR-ND; Supplier 2: Digi-Key; Supplier Part Number 2: LT3461ES6#TRMPBFCT-ND; Supplier 3: Digi-Key; Supplier Part Number 3: LT3461ES6#TRMPBFDKR-ND; Supplier 4: Farnell; Supplier Part Number 4: 1663821RL; Supplier 5: Farnell; Supplier Part Number 5: 1663821; Supplier 6: Newark; Supplier Part Number 6: 57M8173; Packing: Mini Tape and Reel; RoHS: TRUE; Mounting Technology: Surface Mount; Code_JEDEC: MO-193; ComponentLink1Description: Manufacturer URL; ComponentLink1URL: http://www.linear.com/; ComponentLink2Description: Datasheet; ComponentLink2URL: http://cds.linear.com/docs/en/datasheet/3461af.pdf; ComponentLink3Description: Package Specification; ComponentLink3URL: http://cds.linear.com/docs/en/packaging/SOT_6_05-08-1636.pdf
footprint LT-S6-6-TSOT-23_N (SOT23, 6-Leads, Body 2.9x1.75mm, Pitch 0.95mm, IPC Medium Density)
footprint LT-S6-6-TSOT-23_L (SOT23, 6-Leads, Body 2.9x1.75mm, Pitch 0.95mm, IPC High Density)
footprint LT-S6-6-TSOT-23_M (SOT23, 6-Leads, Body 2.9x1.75mm, Pitch 0.95mm, IPC Low Density)
pins: 1 SW, 2 GND (power), 3 FB (in), 4 ~{SHDN} (in), 5 VOUT (power), 6 VIN (power)

## LT3461ES6#TRPBF
designator U?
1.3 MHz Step-Up DC/DC Converter with Integrated Schottky, 6-pin SOT23 (S6-6), -40 to 85 degC, Pb-Free, Tape and Reel; Manufacturer: Linear Technology; PartNumber: LT3461ES6#TRPBF; Number of Outputs: 1; PackageVersion: Jun-10; PackageReference: S6-6; PackageDescription: 6-Pin Plastic TSOT-23, Body 2.9 x 1.63 mm, Pitch 0.95 mm; Supplier 1: Digi-Key; Supplier Part Number 1: LT3461ES6#TRPBF-ND; Supplier 2: Newark; Supplier Part Number 2: 57M8174; Packing: Tape and Reel; RoHS: TRUE; Mounting Technology: Surface Mount; Code_JEDEC: MO-193; ComponentLink1Description: Manufacturer URL; ComponentLink1URL: http://www.linear.com/; ComponentLink2Description: Datasheet; ComponentLink2URL: http://cds.linear.com/docs/en/datasheet/3461af.pdf; ComponentLink3Description: Package Specification; ComponentLink3URL: http://cds.linear.com/docs/en/packaging/SOT_6_05-08-1636.pdf
footprint LT-S6-6-TSOT-23_N (SOT23, 6-Leads, Body 2.9x1.75mm, Pitch 0.95mm, IPC Medium Density)
footprint LT-S6-6-TSOT-23_L (SOT23, 6-Leads, Body 2.9x1.75mm, Pitch 0.95mm, IPC High Density)
footprint LT-S6-6-TSOT-23_M (SOT23, 6-Leads, Body 2.9x1.75mm, Pitch 0.95mm, IPC Low Density)
pins: 1 SW, 2 GND (power), 3 FB (in), 4 ~{SHDN} (in), 5 VOUT (power), 6 VIN (power)

## LT3462AES6
designator U?
Inverting 2.7 MHz DC/DC Converter with Integrated Schottky MAX, 6-pin SOT23 (S6-6), -40 to 85 degC; Manufacturer: Linear Technology; PartNumber: LT3462AES6; Number of Outputs: 1; PackageVersion: Jun-10; PackageReference: S6-6; PackageDescription: 6-Pin Plastic TSOT-23, Body 2.9 x 1.63 mm, Pitch 0.95 mm; RoHS: FALSE; Mounting Technology: Surface Mount; Code_JEDEC: MO-193; ComponentLink1Description: Manufacturer URL; ComponentLink1URL: http://www.linear.com/; ComponentLink2Description: Datasheet; ComponentLink2URL: http://cds.linear.com/docs/en/datasheet/3462af.pdf; ComponentLink3Description: Package Specification; ComponentLink3URL: http://cds.linear.com/docs/en/packaging/SOT_6_05-08-1636.pdf
footprint LT-S6-6-TSOT-23_N (SOT23, 6-Leads, Body 2.9x1.75mm, Pitch 0.95mm, IPC Medium Density)
footprint LT-S6-6-TSOT-23_L (SOT23, 6-Leads, Body 2.9x1.75mm, Pitch 0.95mm, IPC High Density)
footprint LT-S6-6-TSOT-23_M (SOT23, 6-Leads, Body 2.9x1.75mm, Pitch 0.95mm, IPC Low Density)
pins: 1 SW (power) "Switch Pin. Connect to external inductor L1 and positive terminal of transfer cap.", 2 GND (power) "Ground. Tie directly to local ground plane.", 3 FB (in) "Feedback Pin. Connect resistive divider tap here. Set R1 according to R1 = R2 • (VOUT/1.265V). In shutdown, a proprietary shutdown bias current cancellation circuit allows the internal 3uA source to pull up the SDREF pin(See Datasheet)", 4 SDREF (io) "Dual Function Shutdown and 1.265V Reference Output Pin. Pull to GND with external N-FET to turn regulator off. Turn-off pull-down and a 2uA internal source will pull SDREF up to turn-on the regulator. At turnon, a 180uA (See Datasheet)", 5 D "Anode Terminal of Integrated Schottky Diode. Connect to negative terminal of transfer cap and external inductor L2.", 6 VIN (power) "Input Supply Pin. Must be locally bypassed"

## LT3462AES6#PBF
designator U?
Inverting 2.7 MHz DC/DC Converter with Integrated Schottky MAX, 6-pin SOT23 (S6-6), -40 to 85 degC, Pb-Free; Manufacturer: Linear Technology; PartNumber: LT3462AES6#PBF; Number of Outputs: 1; PackageVersion: Jun-10; PackageReference: S6-6; PackageDescription: 6-Pin Plastic TSOT-23, Body 2.9 x 1.63 mm, Pitch 0.95 mm; Supplier 1: Newark; Supplier Part Number 1: 11R8008; Supplier 2: Newark; Supplier Part Number 2: 69W6150; RoHS: TRUE; Mounting Technology: Surface Mount; Code_JEDEC: MO-193; ComponentLink1Description: Manufacturer URL; ComponentLink1URL: http://www.linear.com/; ComponentLink2Description: Datasheet; ComponentLink2URL: http://cds.linear.com/docs/en/datasheet/3462af.pdf; ComponentLink3Description: Package Specification; ComponentLink3URL: http://cds.linear.com/docs/en/packaging/SOT_6_05-08-1636.pdf
footprint LT-S6-6-TSOT-23_N (SOT23, 6-Leads, Body 2.9x1.75mm, Pitch 0.95mm, IPC Medium Density)
footprint LT-S6-6-TSOT-23_L (SOT23, 6-Leads, Body 2.9x1.75mm, Pitch 0.95mm, IPC High Density)
footprint LT-S6-6-TSOT-23_M (SOT23, 6-Leads, Body 2.9x1.75mm, Pitch 0.95mm, IPC Low Density)
pins: 1 SW (power) "Switch Pin. Connect to external inductor L1 and positive terminal of transfer cap.", 2 GND (power) "Ground. Tie directly to local ground plane.", 3 FB (in) "Feedback Pin. Connect resistive divider tap here. Set R1 according to R1 = R2 • (VOUT/1.265V). In shutdown, a proprietary shutdown bias current cancellation circuit allows the internal 3uA source to pull up the SDREF pin(See Datasheet)", 4 SDREF (io) "Dual Function Shutdown and 1.265V Reference Output Pin. Pull to GND with external N-FET to turn regulator off. Turn-off pull-down and a 2uA internal source will pull SDREF up to turn-on the regulator. At turnon, a 180uA (See Datasheet)", 5 D "Anode Terminal of Integrated Schottky Diode. Connect to negative terminal of transfer cap and external inductor L2.", 6 VIN (power) "Input Supply Pin. Must be locally bypassed"

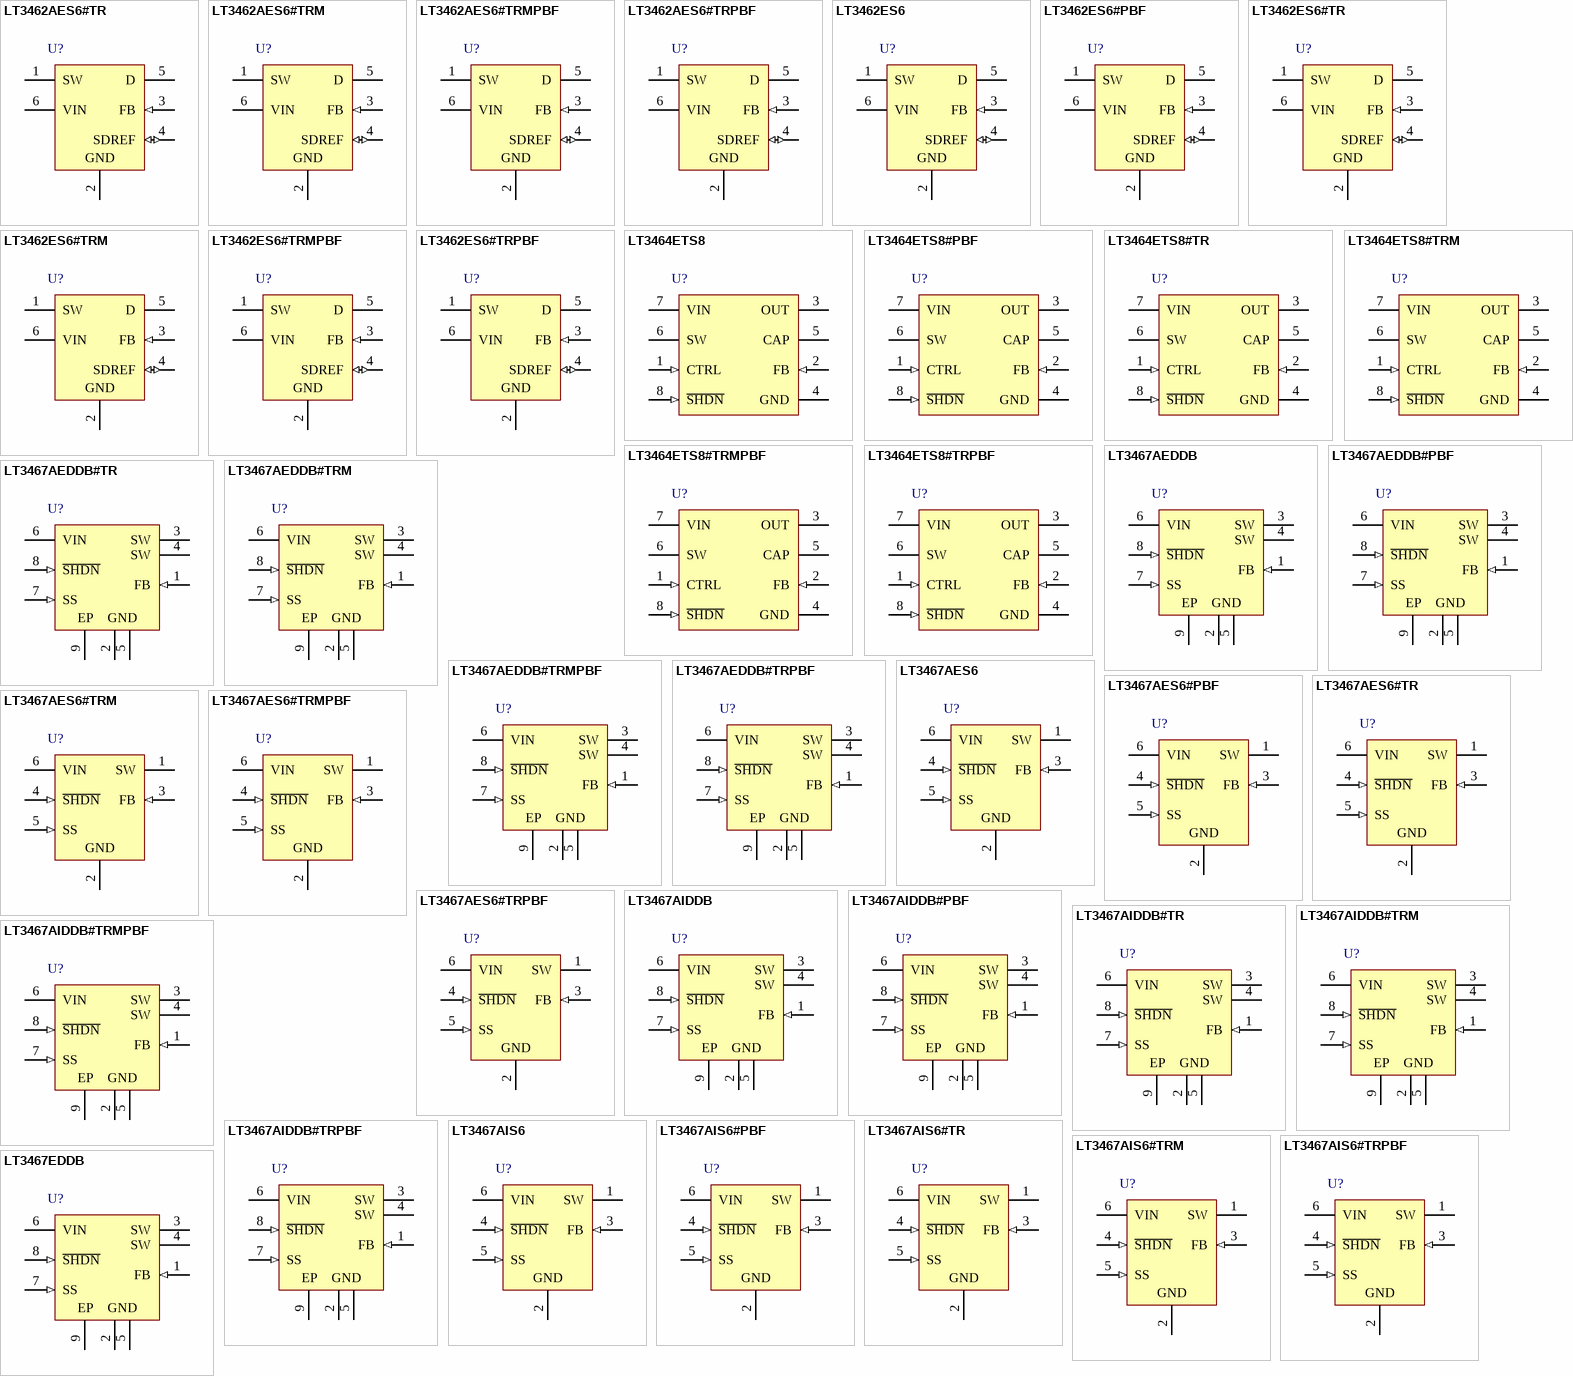
[diagram p36: symbols LT3462AES6#TR to LT3467EDDB]

## LT3462AES6#TR
designator U?
Inverting 2.7 MHz DC/DC Converter with Integrated Schottky MAX, 6-pin SOT23 (S6-6), -40 to 85 degC, Tape and Reel; Manufacturer: Linear Technology; PartNumber: LT3462AES6#TR; Number of Outputs: 1; PackageVersion: Jun-10; PackageReference: S6-6; PackageDescription: 6-Pin Plastic TSOT-23, Body 2.9 x 1.63 mm, Pitch 0.95 mm; Supplier 1: Digi-Key; Supplier Part Number 1: LT3462AES6#TR-ND; Packing: Tape and Reel; RoHS: FALSE; Mounting Technology: Surface Mount; Code_JEDEC: MO-193; ComponentLink1Description: Manufacturer URL; ComponentLink1URL: http://www.linear.com/; ComponentLink2Description: Datasheet; ComponentLink2URL: http://cds.linear.com/docs/en/datasheet/3462af.pdf; ComponentLink3Description: Package Specification; ComponentLink3URL: http://cds.linear.com/docs/en/packaging/SOT_6_05-08-1636.pdf
footprint LT-S6-6-TSOT-23_N (SOT23, 6-Leads, Body 2.9x1.75mm, Pitch 0.95mm, IPC Medium Density)
footprint LT-S6-6-TSOT-23_L (SOT23, 6-Leads, Body 2.9x1.75mm, Pitch 0.95mm, IPC High Density)
footprint LT-S6-6-TSOT-23_M (SOT23, 6-Leads, Body 2.9x1.75mm, Pitch 0.95mm, IPC Low Density)
pins: 1 SW (power) "Switch Pin. Connect to external inductor L1 and positive terminal of transfer cap.", 2 GND (power) "Ground. Tie directly to local ground plane.", 3 FB (in) "Feedback Pin. Connect resistive divider tap here. Set R1 according to R1 = R2 • (VOUT/1.265V). In shutdown, a proprietary shutdown bias current cancellation circuit allows the internal 3uA source to pull up the SDREF pin(See Datasheet)", 4 SDREF (io) "Dual Function Shutdown and 1.265V Reference Output Pin. Pull to GND with external N-FET to turn regulator off. Turn-off pull-down and a 2uA internal source will pull SDREF up to turn-on the regulator. At turnon, a 180uA (See Datasheet)", 5 D "Anode Terminal of Integrated Schottky Diode. Connect to negative terminal of transfer cap and external inductor L2.", 6 VIN (power) "Input Supply Pin. Must be locally bypassed"

## LT3462AES6#TRM
designator U?
Inverting 2.7 MHz DC/DC Converter with Integrated Schottky MAX, 6-pin SOT23 (S6-6), -40 to 85 degC, Mini Tape and Reel; Manufacturer: Linear Technology; PartNumber: LT3462AES6#TRM; Number of Outputs: 1; PackageVersion: Jun-10; PackageReference: S6-6; PackageDescription: 6-Pin Plastic TSOT-23, Body 2.9 x 1.63 mm, Pitch 0.95 mm; Supplier 1: Digi-Key; Supplier Part Number 1: LT3462AES6#TRM-ND; Packing: Mini Tape and Reel; RoHS: FALSE; Mounting Technology: Surface Mount; Code_JEDEC: MO-193; ComponentLink1Description: Manufacturer URL; ComponentLink1URL: http://www.linear.com/; ComponentLink2Description: Datasheet; ComponentLink2URL: http://cds.linear.com/docs/en/datasheet/3462af.pdf; ComponentLink3Description: Package Specification; ComponentLink3URL: http://cds.linear.com/docs/en/packaging/SOT_6_05-08-1636.pdf
footprint LT-S6-6-TSOT-23_N (SOT23, 6-Leads, Body 2.9x1.75mm, Pitch 0.95mm, IPC Medium Density)
footprint LT-S6-6-TSOT-23_L (SOT23, 6-Leads, Body 2.9x1.75mm, Pitch 0.95mm, IPC High Density)
footprint LT-S6-6-TSOT-23_M (SOT23, 6-Leads, Body 2.9x1.75mm, Pitch 0.95mm, IPC Low Density)
pins: 1 SW (power) "Switch Pin. Connect to external inductor L1 and positive terminal of transfer cap.", 2 GND (power) "Ground. Tie directly to local ground plane.", 3 FB (in) "Feedback Pin. Connect resistive divider tap here. Set R1 according to R1 = R2 • (VOUT/1.265V). In shutdown, a proprietary shutdown bias current cancellation circuit allows the internal 3uA source to pull up the SDREF pin(See Datasheet)", 4 SDREF (io) "Dual Function Shutdown and 1.265V Reference Output Pin. Pull to GND with external N-FET to turn regulator off. Turn-off pull-down and a 2uA internal source will pull SDREF up to turn-on the regulator. At turnon, a 180uA (See Datasheet)", 5 D "Anode Terminal of Integrated Schottky Diode. Connect to negative terminal of transfer cap and external inductor L2.", 6 VIN (power) "Input Supply Pin. Must be locally bypassed"

## LT3462AES6#TRMPBF
designator U?
Inverting 2.7 MHz DC/DC Converter with Integrated Schottky MAX, 6-pin SOT23 (S6-6), -40 to 85 degC, Pb-Free, Mini Tape and Reel; Manufacturer: Linear Technology; PartNumber: LT3462AES6#TRMPBF; Number of Outputs: 1; PackageVersion: Jun-10; PackageReference: S6-6; PackageDescription: 6-Pin Plastic TSOT-23, Body 2.9 x 1.63 mm, Pitch 0.95 mm; Supplier 1: Digi-Key; Supplier Part Number 1: LT3462AES6#TRMPBFTR-ND; Supplier 2: Digi-Key; Supplier Part Number 2: LT3462AES6#TRMPBFCT-ND; Supplier 3: Digi-Key; Supplier Part Number 3: LT3462AES6#TRMPBFDKR-ND; Supplier 4: Newark; Supplier Part Number 4: 57M8177; Packing: Mini Tape and Reel; RoHS: TRUE; Mounting Technology: Surface Mount; Code_JEDEC: MO-193; ComponentLink1Description: Manufacturer URL; ComponentLink1URL: http://www.linear.com/; ComponentLink2Description: Datasheet; ComponentLink2URL: http://cds.linear.com/docs/en/datasheet/3462af.pdf; ComponentLink3Description: Package Specification; ComponentLink3URL: http://cds.linear.com/docs/en/packaging/SOT_6_05-08-1636.pdf
footprint LT-S6-6-TSOT-23_N (SOT23, 6-Leads, Body 2.9x1.75mm, Pitch 0.95mm, IPC Medium Density)
footprint LT-S6-6-TSOT-23_L (SOT23, 6-Leads, Body 2.9x1.75mm, Pitch 0.95mm, IPC High Density)
footprint LT-S6-6-TSOT-23_M (SOT23, 6-Leads, Body 2.9x1.75mm, Pitch 0.95mm, IPC Low Density)
pins: 1 SW (power) "Switch Pin. Connect to external inductor L1 and positive terminal of transfer cap.", 2 GND (power) "Ground. Tie directly to local ground plane.", 3 FB (in) "Feedback Pin. Connect resistive divider tap here. Set R1 according to R1 = R2 • (VOUT/1.265V). In shutdown, a proprietary shutdown bias current cancellation circuit allows the internal 3uA source to pull up the SDREF pin(See Datasheet)", 4 SDREF (io) "Dual Function Shutdown and 1.265V Reference Output Pin. Pull to GND with external N-FET to turn regulator off. Turn-off pull-down and a 2uA internal source will pull SDREF up to turn-on the regulator. At turnon, a 180uA (See Datasheet)", 5 D "Anode Terminal of Integrated Schottky Diode. Connect to negative terminal of transfer cap and external inductor L2.", 6 VIN (power) "Input Supply Pin. Must be locally bypassed"

## LT3462AES6#TRPBF
designator U?
Inverting 2.7 MHz DC/DC Converter with Integrated Schottky MAX, 6-pin SOT23 (S6-6), -40 to 85 degC, Pb-Free, Tape and Reel; Manufacturer: Linear Technology; PartNumber: LT3462AES6#TRPBF; Number of Outputs: 1; PackageVersion: Jun-10; PackageReference: S6-6; PackageDescription: 6-Pin Plastic TSOT-23, Body 2.9 x 1.63 mm, Pitch 0.95 mm; Supplier 1: Digi-Key; Supplier Part Number 1: LT3462AES6#TRPBF-ND; Supplier 2: Newark; Supplier Part Number 2: 57M8178; Packing: Tape and Reel; RoHS: TRUE; Mounting Technology: Surface Mount; Code_JEDEC: MO-193; ComponentLink1Description: Manufacturer URL; ComponentLink1URL: http://www.linear.com/; ComponentLink2Description: Datasheet; ComponentLink2URL: http://cds.linear.com/docs/en/datasheet/3462af.pdf; ComponentLink3Description: Package Specification; ComponentLink3URL: http://cds.linear.com/docs/en/packaging/SOT_6_05-08-1636.pdf
footprint LT-S6-6-TSOT-23_N (SOT23, 6-Leads, Body 2.9x1.75mm, Pitch 0.95mm, IPC Medium Density)
footprint LT-S6-6-TSOT-23_L (SOT23, 6-Leads, Body 2.9x1.75mm, Pitch 0.95mm, IPC High Density)
footprint LT-S6-6-TSOT-23_M (SOT23, 6-Leads, Body 2.9x1.75mm, Pitch 0.95mm, IPC Low Density)
pins: 1 SW (power) "Switch Pin. Connect to external inductor L1 and positive terminal of transfer cap.", 2 GND (power) "Ground. Tie directly to local ground plane.", 3 FB (in) "Feedback Pin. Connect resistive divider tap here. Set R1 according to R1 = R2 • (VOUT/1.265V). In shutdown, a proprietary shutdown bias current cancellation circuit allows the internal 3uA source to pull up the SDREF pin(See Datasheet)", 4 SDREF (io) "Dual Function Shutdown and 1.265V Reference Output Pin. Pull to GND with external N-FET to turn regulator off. Turn-off pull-down and a 2uA internal source will pull SDREF up to turn-on the regulator. At turnon, a 180uA (See Datasheet)", 5 D "Anode Terminal of Integrated Schottky Diode. Connect to negative terminal of transfer cap and external inductor L2.", 6 VIN (power) "Input Supply Pin. Must be locally bypassed"

## LT3462ES6
designator U?
Inverting 1.2 MHz DC/DC Converter with Integrated Schottky MAX, 6-pin SOT23 (S6-6), -40 to 85 degC; Manufacturer: Linear Technology; PartNumber: LT3462ES6; Number of Outputs: 1; PackageVersion: Jun-10; PackageReference: S6-6; PackageDescription: 6-Pin Plastic TSOT-23, Body 2.9 x 1.63 mm, Pitch 0.95 mm; RoHS: FALSE; Mounting Technology: Surface Mount; Code_JEDEC: MO-193; ComponentLink1Description: Manufacturer URL; ComponentLink1URL: http://www.linear.com/; ComponentLink2Description: Datasheet; ComponentLink2URL: http://cds.linear.com/docs/en/datasheet/3462af.pdf; ComponentLink3Description: Package Specification; ComponentLink3URL: http://cds.linear.com/docs/en/packaging/SOT_6_05-08-1636.pdf
footprint LT-S6-6-TSOT-23_N (SOT23, 6-Leads, Body 2.9x1.75mm, Pitch 0.95mm, IPC Medium Density)
footprint LT-S6-6-TSOT-23_L (SOT23, 6-Leads, Body 2.9x1.75mm, Pitch 0.95mm, IPC High Density)
footprint LT-S6-6-TSOT-23_M (SOT23, 6-Leads, Body 2.9x1.75mm, Pitch 0.95mm, IPC Low Density)
pins: 1 SW "Switch Pin. Connect to external inductor L1 and positive terminal of transfer cap.", 2 GND (power) "Ground. Tie directly to local ground plane.", 3 FB (in) "Feedback Pin. Connect resistive divider tap here. Set R1 according to R1 = R2 x (VOUT/1.265V). In shutdown, a proprietary shutdown bias current cancellation circuit allows the internal 3uA source to pull up the SDREF pin(See Datasheet)", 4 SDREF (io) "Dual Function Shutdown and 1.265V Reference Output Pin. Pull to GND with external N-FET to turn regulator off. Turn-off pull-down and a 2uA internal source will pull SDREF up to turn-on the regulator. At turnon, a 180uA (See Datasheet)", 5 D "Anode Terminal of Integrated Schottky Diode. Connect to negative terminal of transfer cap and external inductor L2.", 6 VIN (power) "Input Supply Pin. Must be locally bypassed"